# EAGLE library part TMC2209-SILENTSTEPSTICK (library custom)
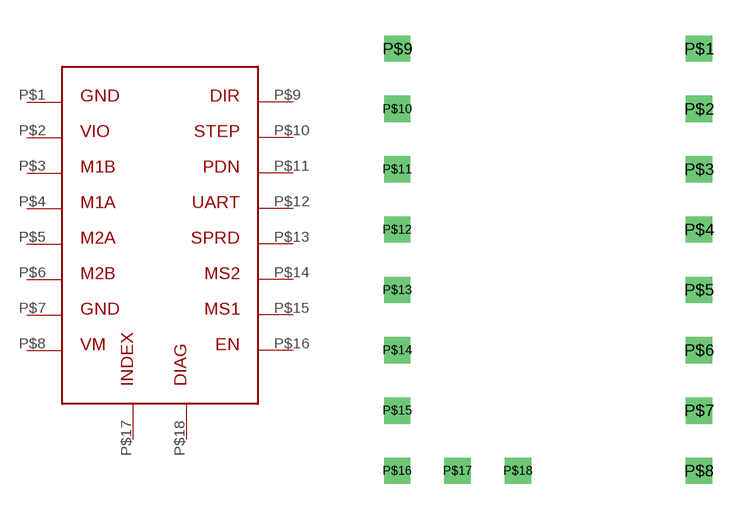
[diagram p0: symbol with the pads of TMC2209-SILENTSTEPSTICK; footprint TMC2209-SILENTSTEPSTICK]

Designator prefix -

## TMC2209-SILENTSTEPSTICK  [TMC2209-SILENTSTEPSTICK]
P$1  P$1
P$2  P$2
P$3  P$3
P$4  P$4
P$5  P$5
P$6  P$6
P$7  P$7
P$8  P$8
P$9  P$9
P$10  P$10
P$11  P$11
P$12  P$12
P$13  P$13
P$14  P$14
P$15  P$15
P$16  P$16
P$17  P$17
P$18  P$18

## Footprint TMC2209-SILENTSTEPSTICK (pad centres in mm)
drill 0.6 square: P$1 0,0; P$2 0,-2.54; P$3 0,-5.08; P$4 0,-7.62; P$5 0,-10.16; P$6 0,-12.7; P$7 0,-15.24; P$8 0,-17.78; P$9 -12.7,0; P$10 -12.7,-2.54; P$11 -12.7,-5.08; P$12 -12.7,-7.62; P$13 -12.7,-10.16; P$14 -12.7,-12.7; P$15 -12.7,-15.24; P$16 -12.7,-17.78; P$17 -10.16,-17.78; P$18 -7.62,-17.78